# Altium integrated library Receiver.IntLib: 89 symbols (part 1 of 3)
Pins are listed as number, name and electrical type; pins without a type are passive.

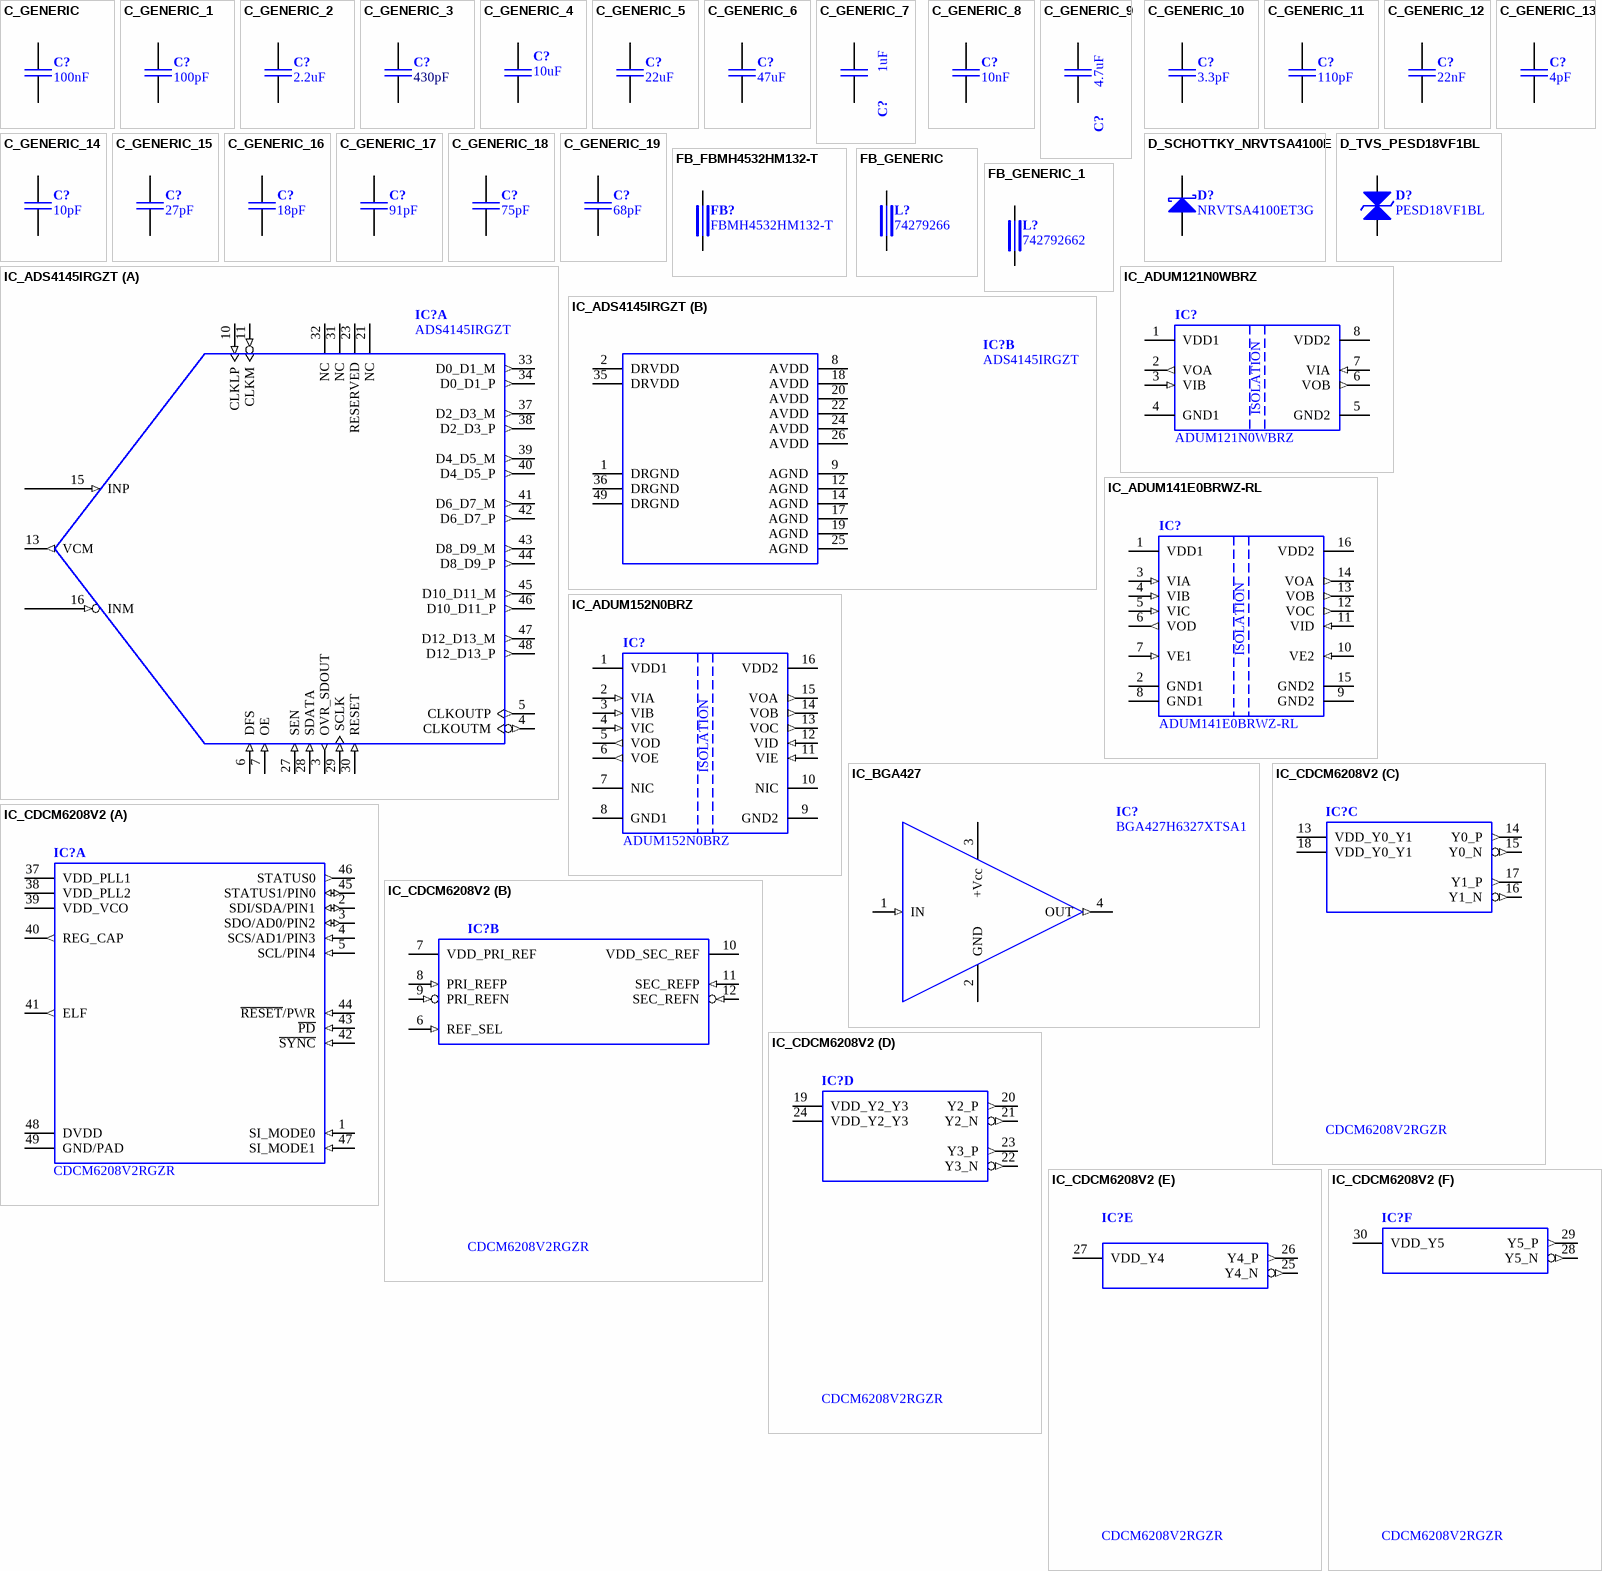
[diagram p0: symbols C_GENERIC to IC_CDCM6208V2]

## C_GENERIC
designator C?, comment 100nF
Prometheus_ID: *; Prometheus_ManPartNo: 100nF; Prometheus_Manufacturer: *; Prometheus_Comment: 100nF
footprint C_0201_L [CAPC0603L IPC] (0201 imperial (0603 metric) chip capacitor, least copper)
footprint C_0201_M [CAPC0603M IPC] (0201 imperial (0603 metric) chip capacitor, max copper)
footprint C_0201_N [CAPC0603N IPC] (0201 imperial (0603 metric) chip capacitor, nominal copper)
footprint C_0603_L [CAPC1608L IPC] (0603 imperial (1608 metric) chip capacitor, least copper)
footprint C_0603_M [CAPC1608M IPC] (0603 imperial (1608 metric) chip capacitor, max copper)
footprint C_0603_N [CAPC1608N IPC] (0603 imperial (1608 metric) chip capacitor, nominal copper)
footprint C_0805_L [CAPC2013L IPC] (0805 imperial (2013 metric) chip capacitor, least copper)
footprint C_0805_M [CAPC2013M IPC] (0805 imperial (2013 metric) chip capacitor, max copper)
footprint C_0805_N [CAPC2013N IPC] (0805 imperial (2013 metric) chip capacitor, nominal copper)
footprint C_1206_L [CAPC3216L IPC] (1206 imperial (3216 metric) chip capacitor, least copper)
footprint C_1206_M [CAPC3216M IPC] (1206 imperial (3216 metric) chip capacitor, max copper)
footprint C_1206_N [CAPC3216N IPC] (1206 imperial (3216 metric) chip capacitor, nominal copper)
footprint C_1210_L [CAPC3225L IPC] (1210 imperial (3225 metric) chip capacitor, least copper)
footprint C_1210_M [CAPC3225M IPC] (1210 imperial (3225 metric) chip capacitor, max copper)
footprint C_1210_N [CAPC3225N IPC] (1210 imperial (3225 metric) chip capacitor, nominal copper)
footprint C_0402_L [CAPC1005L IPC] (0402 imperial (1005 metric) chip capacitor, least copper)
footprint C_0402_M [CAPC1005M IPC] (0402 imperial (1005 metric) chip capacitor, max copper)
footprint C_0402_N [CAPC1005N IPC] (0402 imperial (1005 metric) chip capacitor, nominal copper)
footprint C_1808_N [CAPC4520M IPC] (1808 imperial (4520 metric) chip capacitor, max copper)
footprint C_RAD_P750_1050x500_H1100 - duplicate
footprint ECQU2A
pins: 1, 2

## C_GENERIC_1
designator C?, comment 100pF
Prometheus_ID: *; Prometheus_ManPartNo: 100pF; Prometheus_Manufacturer: *; Prometheus_Comment: 100pF
footprint C_0201_L [CAPC0603L IPC] (0201 imperial (0603 metric) chip capacitor, least copper)
footprint C_0201_M [CAPC0603M IPC] (0201 imperial (0603 metric) chip capacitor, max copper)
footprint C_0201_N [CAPC0603N IPC] (0201 imperial (0603 metric) chip capacitor, nominal copper)
footprint C_0603_L [CAPC1608L IPC] (0603 imperial (1608 metric) chip capacitor, least copper)
footprint C_0603_M [CAPC1608M IPC] (0603 imperial (1608 metric) chip capacitor, max copper)
footprint C_0603_N [CAPC1608N IPC] (0603 imperial (1608 metric) chip capacitor, nominal copper)
footprint C_0805_L [CAPC2013L IPC] (0805 imperial (2013 metric) chip capacitor, least copper)
footprint C_0805_M [CAPC2013M IPC] (0805 imperial (2013 metric) chip capacitor, max copper)
footprint C_0805_N [CAPC2013N IPC] (0805 imperial (2013 metric) chip capacitor, nominal copper)
footprint C_1206_L [CAPC3216L IPC] (1206 imperial (3216 metric) chip capacitor, least copper)
footprint C_1206_M [CAPC3216M IPC] (1206 imperial (3216 metric) chip capacitor, max copper)
footprint C_1206_N [CAPC3216N IPC] (1206 imperial (3216 metric) chip capacitor, nominal copper)
footprint C_1210_L [CAPC3225L IPC] (1210 imperial (3225 metric) chip capacitor, least copper)
footprint C_1210_M [CAPC3225M IPC] (1210 imperial (3225 metric) chip capacitor, max copper)
footprint C_1210_N [CAPC3225N IPC] (1210 imperial (3225 metric) chip capacitor, nominal copper)
footprint C_0402_L [CAPC1005L IPC] (0402 imperial (1005 metric) chip capacitor, least copper)
footprint C_0402_M [CAPC1005M IPC] (0402 imperial (1005 metric) chip capacitor, max copper)
footprint C_0402_N [CAPC1005N IPC] (0402 imperial (1005 metric) chip capacitor, nominal copper)
footprint C_1808_N [CAPC4520M IPC] (1808 imperial (4520 metric) chip capacitor, max copper)
footprint C_RAD_P750_1050x500_H1100 - duplicate
footprint ECQU2A
pins: 1, 2

## C_GENERIC_2
designator C?, comment 2.2uF
Prometheus_ID: *; Prometheus_ManPartNo: 2.2uF; Prometheus_Manufacturer: *; Prometheus_Comment: 2.2uF
footprint C_0201_L [CAPC0603L IPC] (0201 imperial (0603 metric) chip capacitor, least copper)
footprint C_0201_M [CAPC0603M IPC] (0201 imperial (0603 metric) chip capacitor, max copper)
footprint C_0201_N [CAPC0603N IPC] (0201 imperial (0603 metric) chip capacitor, nominal copper)
footprint C_0603_L [CAPC1608L IPC] (0603 imperial (1608 metric) chip capacitor, least copper)
footprint C_0603_M [CAPC1608M IPC] (0603 imperial (1608 metric) chip capacitor, max copper)
footprint C_0603_N [CAPC1608N IPC] (0603 imperial (1608 metric) chip capacitor, nominal copper)
footprint C_0805_L [CAPC2013L IPC] (0805 imperial (2013 metric) chip capacitor, least copper)
footprint C_0805_M [CAPC2013M IPC] (0805 imperial (2013 metric) chip capacitor, max copper)
footprint C_0805_N [CAPC2013N IPC] (0805 imperial (2013 metric) chip capacitor, nominal copper)
footprint C_1206_L [CAPC3216L IPC] (1206 imperial (3216 metric) chip capacitor, least copper)
footprint C_1206_M [CAPC3216M IPC] (1206 imperial (3216 metric) chip capacitor, max copper)
footprint C_1206_N [CAPC3216N IPC] (1206 imperial (3216 metric) chip capacitor, nominal copper)
footprint C_1210_L [CAPC3225L IPC] (1210 imperial (3225 metric) chip capacitor, least copper)
footprint C_1210_M [CAPC3225M IPC] (1210 imperial (3225 metric) chip capacitor, max copper)
footprint C_1210_N [CAPC3225N IPC] (1210 imperial (3225 metric) chip capacitor, nominal copper)
footprint C_0402_L [CAPC1005L IPC] (0402 imperial (1005 metric) chip capacitor, least copper)
footprint C_0402_M [CAPC1005M IPC] (0402 imperial (1005 metric) chip capacitor, max copper)
footprint C_0402_N [CAPC1005N IPC] (0402 imperial (1005 metric) chip capacitor, nominal copper)
footprint C_1808_N [CAPC4520M IPC] (1808 imperial (4520 metric) chip capacitor, max copper)
footprint C_RAD_P750_1050x500_H1100 - duplicate
footprint ECQU2A
pins: 1, 2

## C_GENERIC_3
designator C?, comment 430pF
Prometheus_ID: *; Prometheus_ManPartNo: 430pF; Prometheus_Manufacturer: *; Prometheus_Comment: 430pF
footprint C_0201_L [CAPC0603L IPC] (0201 imperial (0603 metric) chip capacitor, least copper)
footprint C_0201_M [CAPC0603M IPC] (0201 imperial (0603 metric) chip capacitor, max copper)
footprint C_0201_N [CAPC0603N IPC] (0201 imperial (0603 metric) chip capacitor, nominal copper)
footprint C_0603_L [CAPC1608L IPC] (0603 imperial (1608 metric) chip capacitor, least copper)
footprint C_0603_M [CAPC1608M IPC] (0603 imperial (1608 metric) chip capacitor, max copper)
footprint C_0603_N [CAPC1608N IPC] (0603 imperial (1608 metric) chip capacitor, nominal copper)
footprint C_0805_L [CAPC2013L IPC] (0805 imperial (2013 metric) chip capacitor, least copper)
footprint C_0805_M [CAPC2013M IPC] (0805 imperial (2013 metric) chip capacitor, max copper)
footprint C_0805_N [CAPC2013N IPC] (0805 imperial (2013 metric) chip capacitor, nominal copper)
footprint C_1206_L [CAPC3216L IPC] (1206 imperial (3216 metric) chip capacitor, least copper)
footprint C_1206_M [CAPC3216M IPC] (1206 imperial (3216 metric) chip capacitor, max copper)
footprint C_1206_N [CAPC3216N IPC] (1206 imperial (3216 metric) chip capacitor, nominal copper)
footprint C_1210_L [CAPC3225L IPC] (1210 imperial (3225 metric) chip capacitor, least copper)
footprint C_1210_M [CAPC3225M IPC] (1210 imperial (3225 metric) chip capacitor, max copper)
footprint C_1210_N [CAPC3225N IPC] (1210 imperial (3225 metric) chip capacitor, nominal copper)
footprint C_0402_L [CAPC1005L IPC] (0402 imperial (1005 metric) chip capacitor, least copper)
footprint C_0402_M [CAPC1005M IPC] (0402 imperial (1005 metric) chip capacitor, max copper)
footprint C_0402_N [CAPC1005N IPC] (0402 imperial (1005 metric) chip capacitor, nominal copper)
footprint C_1808_N [CAPC4520M IPC] (1808 imperial (4520 metric) chip capacitor, max copper)
footprint C_RAD_P750_1050x500_H1100 - duplicate
footprint ECQU2A
pins: 1, 2

## C_GENERIC_4
designator C?, comment 10uF
Prometheus_ID: *; Prometheus_ManPartNo: 10uF; Prometheus_Manufacturer: *; Prometheus_Comment: 10uF
footprint C_0201_L [CAPC0603L IPC] (0201 imperial (0603 metric) chip capacitor, least copper)
footprint C_0201_M [CAPC0603M IPC] (0201 imperial (0603 metric) chip capacitor, max copper)
footprint C_0201_N [CAPC0603N IPC] (0201 imperial (0603 metric) chip capacitor, nominal copper)
footprint C_0603_L [CAPC1608L IPC] (0603 imperial (1608 metric) chip capacitor, least copper)
footprint C_0603_M [CAPC1608M IPC] (0603 imperial (1608 metric) chip capacitor, max copper)
footprint C_0603_N [CAPC1608N IPC] (0603 imperial (1608 metric) chip capacitor, nominal copper)
footprint C_0805_L [CAPC2013L IPC] (0805 imperial (2013 metric) chip capacitor, least copper)
footprint C_0805_M [CAPC2013M IPC] (0805 imperial (2013 metric) chip capacitor, max copper)
footprint C_0805_N [CAPC2013N IPC] (0805 imperial (2013 metric) chip capacitor, nominal copper)
footprint C_1206_L [CAPC3216L IPC] (1206 imperial (3216 metric) chip capacitor, least copper)
footprint C_1206_M [CAPC3216M IPC] (1206 imperial (3216 metric) chip capacitor, max copper)
footprint C_1206_N [CAPC3216N IPC] (1206 imperial (3216 metric) chip capacitor, nominal copper)
footprint C_1210_L [CAPC3225L IPC] (1210 imperial (3225 metric) chip capacitor, least copper)
footprint C_1210_M [CAPC3225M IPC] (1210 imperial (3225 metric) chip capacitor, max copper)
footprint C_1210_N [CAPC3225N IPC] (1210 imperial (3225 metric) chip capacitor, nominal copper)
footprint C_0402_L [CAPC1005L IPC] (0402 imperial (1005 metric) chip capacitor, least copper)
footprint C_0402_M [CAPC1005M IPC] (0402 imperial (1005 metric) chip capacitor, max copper)
footprint C_0402_N [CAPC1005N IPC] (0402 imperial (1005 metric) chip capacitor, nominal copper)
footprint C_1808_N [CAPC4520M IPC] (1808 imperial (4520 metric) chip capacitor, max copper)
footprint C_RAD_P750_1050x500_H1100 - duplicate
footprint ECQU2A
pins: 1, 2

## C_GENERIC_5
designator C?, comment 22uF
Prometheus_ID: *; Prometheus_ManPartNo: 22uF; Prometheus_Manufacturer: *; Prometheus_Comment: 22uF
footprint C_0201_L [CAPC0603L IPC] (0201 imperial (0603 metric) chip capacitor, least copper)
footprint C_0201_M [CAPC0603M IPC] (0201 imperial (0603 metric) chip capacitor, max copper)
footprint C_0201_N [CAPC0603N IPC] (0201 imperial (0603 metric) chip capacitor, nominal copper)
footprint C_0603_L [CAPC1608L IPC] (0603 imperial (1608 metric) chip capacitor, least copper)
footprint C_0603_M [CAPC1608M IPC] (0603 imperial (1608 metric) chip capacitor, max copper)
footprint C_0603_N [CAPC1608N IPC] (0603 imperial (1608 metric) chip capacitor, nominal copper)
footprint C_0805_L [CAPC2013L IPC] (0805 imperial (2013 metric) chip capacitor, least copper)
footprint C_0805_M [CAPC2013M IPC] (0805 imperial (2013 metric) chip capacitor, max copper)
footprint C_0805_N [CAPC2013N IPC] (0805 imperial (2013 metric) chip capacitor, nominal copper)
footprint C_1206_L [CAPC3216L IPC] (1206 imperial (3216 metric) chip capacitor, least copper)
footprint C_1206_M [CAPC3216M IPC] (1206 imperial (3216 metric) chip capacitor, max copper)
footprint C_1206_N [CAPC3216N IPC] (1206 imperial (3216 metric) chip capacitor, nominal copper)
footprint C_1210_L [CAPC3225L IPC] (1210 imperial (3225 metric) chip capacitor, least copper)
footprint C_1210_M [CAPC3225M IPC] (1210 imperial (3225 metric) chip capacitor, max copper)
footprint C_1210_N [CAPC3225N IPC] (1210 imperial (3225 metric) chip capacitor, nominal copper)
footprint C_0402_L [CAPC1005L IPC] (0402 imperial (1005 metric) chip capacitor, least copper)
footprint C_0402_M [CAPC1005M IPC] (0402 imperial (1005 metric) chip capacitor, max copper)
footprint C_0402_N [CAPC1005N IPC] (0402 imperial (1005 metric) chip capacitor, nominal copper)
footprint C_1808_N [CAPC4520M IPC] (1808 imperial (4520 metric) chip capacitor, max copper)
footprint C_RAD_P750_1050x500_H1100 - duplicate
footprint ECQU2A
pins: 1, 2

## C_GENERIC_6
designator C?, comment 47uF
Prometheus_ID: *; Prometheus_ManPartNo: 47uF; Prometheus_Manufacturer: *; Prometheus_Comment: 47uF
footprint C_0201_L [CAPC0603L IPC] (0201 imperial (0603 metric) chip capacitor, least copper)
footprint C_0201_M [CAPC0603M IPC] (0201 imperial (0603 metric) chip capacitor, max copper)
footprint C_0201_N [CAPC0603N IPC] (0201 imperial (0603 metric) chip capacitor, nominal copper)
footprint C_0603_L [CAPC1608L IPC] (0603 imperial (1608 metric) chip capacitor, least copper)
footprint C_0603_M [CAPC1608M IPC] (0603 imperial (1608 metric) chip capacitor, max copper)
footprint C_0603_N [CAPC1608N IPC] (0603 imperial (1608 metric) chip capacitor, nominal copper)
footprint C_0805_L [CAPC2013L IPC] (0805 imperial (2013 metric) chip capacitor, least copper)
footprint C_0805_M [CAPC2013M IPC] (0805 imperial (2013 metric) chip capacitor, max copper)
footprint C_0805_N [CAPC2013N IPC] (0805 imperial (2013 metric) chip capacitor, nominal copper)
footprint C_1206_L [CAPC3216L IPC] (1206 imperial (3216 metric) chip capacitor, least copper)
footprint C_1206_M [CAPC3216M IPC] (1206 imperial (3216 metric) chip capacitor, max copper)
footprint C_1206_N [CAPC3216N IPC] (1206 imperial (3216 metric) chip capacitor, nominal copper)
footprint C_1210_L [CAPC3225L IPC] (1210 imperial (3225 metric) chip capacitor, least copper)
footprint C_1210_M [CAPC3225M IPC] (1210 imperial (3225 metric) chip capacitor, max copper)
footprint C_1210_N [CAPC3225N IPC] (1210 imperial (3225 metric) chip capacitor, nominal copper)
footprint C_0402_L [CAPC1005L IPC] (0402 imperial (1005 metric) chip capacitor, least copper)
footprint C_0402_M [CAPC1005M IPC] (0402 imperial (1005 metric) chip capacitor, max copper)
footprint C_0402_N [CAPC1005N IPC] (0402 imperial (1005 metric) chip capacitor, nominal copper)
footprint C_1808_N [CAPC4520M IPC] (1808 imperial (4520 metric) chip capacitor, max copper)
footprint C_RAD_P750_1050x500_H1100 - duplicate
footprint ECQU2A
pins: 1, 2

## C_GENERIC_7
designator C?, comment 1uF
Prometheus_ID: *; Prometheus_ManPartNo: 1uF; Prometheus_Manufacturer: *; Prometheus_Comment: 1uF
footprint C_0201_L [CAPC0603L IPC] (0201 imperial (0603 metric) chip capacitor, least copper)
footprint C_0201_M [CAPC0603M IPC] (0201 imperial (0603 metric) chip capacitor, max copper)
footprint C_0201_N [CAPC0603N IPC] (0201 imperial (0603 metric) chip capacitor, nominal copper)
footprint C_0603_L [CAPC1608L IPC] (0603 imperial (1608 metric) chip capacitor, least copper)
footprint C_0603_M [CAPC1608M IPC] (0603 imperial (1608 metric) chip capacitor, max copper)
footprint C_0603_N [CAPC1608N IPC] (0603 imperial (1608 metric) chip capacitor, nominal copper)
footprint C_0805_L [CAPC2013L IPC] (0805 imperial (2013 metric) chip capacitor, least copper)
footprint C_0805_M [CAPC2013M IPC] (0805 imperial (2013 metric) chip capacitor, max copper)
footprint C_0805_N [CAPC2013N IPC] (0805 imperial (2013 metric) chip capacitor, nominal copper)
footprint C_1206_L [CAPC3216L IPC] (1206 imperial (3216 metric) chip capacitor, least copper)
footprint C_1206_M [CAPC3216M IPC] (1206 imperial (3216 metric) chip capacitor, max copper)
footprint C_1206_N [CAPC3216N IPC] (1206 imperial (3216 metric) chip capacitor, nominal copper)
footprint C_1210_L [CAPC3225L IPC] (1210 imperial (3225 metric) chip capacitor, least copper)
footprint C_1210_M [CAPC3225M IPC] (1210 imperial (3225 metric) chip capacitor, max copper)
footprint C_1210_N [CAPC3225N IPC] (1210 imperial (3225 metric) chip capacitor, nominal copper)
footprint C_0402_L [CAPC1005L IPC] (0402 imperial (1005 metric) chip capacitor, least copper)
footprint C_0402_M [CAPC1005M IPC] (0402 imperial (1005 metric) chip capacitor, max copper)
footprint C_0402_N [CAPC1005N IPC] (0402 imperial (1005 metric) chip capacitor, nominal copper)
footprint C_1808_N [CAPC4520M IPC] (1808 imperial (4520 metric) chip capacitor, max copper)
footprint C_RAD_P750_1050x500_H1100 - duplicate
footprint ECQU2A
pins: 1, 2

## C_GENERIC_8
designator C?, comment 10nF
Prometheus_ID: *; Prometheus_ManPartNo: 10nF; Prometheus_Manufacturer: *; Prometheus_Comment: 10nF
footprint C_0201_L [CAPC0603L IPC] (0201 imperial (0603 metric) chip capacitor, least copper)
footprint C_0201_M [CAPC0603M IPC] (0201 imperial (0603 metric) chip capacitor, max copper)
footprint C_0201_N [CAPC0603N IPC] (0201 imperial (0603 metric) chip capacitor, nominal copper)
footprint C_0603_L [CAPC1608L IPC] (0603 imperial (1608 metric) chip capacitor, least copper)
footprint C_0603_M [CAPC1608M IPC] (0603 imperial (1608 metric) chip capacitor, max copper)
footprint C_0603_N [CAPC1608N IPC] (0603 imperial (1608 metric) chip capacitor, nominal copper)
footprint C_0805_L [CAPC2013L IPC] (0805 imperial (2013 metric) chip capacitor, least copper)
footprint C_0805_M [CAPC2013M IPC] (0805 imperial (2013 metric) chip capacitor, max copper)
footprint C_0805_N [CAPC2013N IPC] (0805 imperial (2013 metric) chip capacitor, nominal copper)
footprint C_1206_L [CAPC3216L IPC] (1206 imperial (3216 metric) chip capacitor, least copper)
footprint C_1206_M [CAPC3216M IPC] (1206 imperial (3216 metric) chip capacitor, max copper)
footprint C_1206_N [CAPC3216N IPC] (1206 imperial (3216 metric) chip capacitor, nominal copper)
footprint C_1210_L [CAPC3225L IPC] (1210 imperial (3225 metric) chip capacitor, least copper)
footprint C_1210_M [CAPC3225M IPC] (1210 imperial (3225 metric) chip capacitor, max copper)
footprint C_1210_N [CAPC3225N IPC] (1210 imperial (3225 metric) chip capacitor, nominal copper)
footprint C_0402_L [CAPC1005L IPC] (0402 imperial (1005 metric) chip capacitor, least copper)
footprint C_0402_M [CAPC1005M IPC] (0402 imperial (1005 metric) chip capacitor, max copper)
footprint C_0402_N [CAPC1005N IPC] (0402 imperial (1005 metric) chip capacitor, nominal copper)
footprint C_1808_N [CAPC4520M IPC] (1808 imperial (4520 metric) chip capacitor, max copper)
footprint C_RAD_P750_1050x500_H1100 - duplicate
footprint ECQU2A
pins: 1, 2

## C_GENERIC_9
designator C?, comment 4.7uF
Prometheus_ID: *; Prometheus_ManPartNo: 4.7uF; Prometheus_Manufacturer: *; Prometheus_Comment: 4.7uF
footprint C_0201_L [CAPC0603L IPC] (0201 imperial (0603 metric) chip capacitor, least copper)
footprint C_0201_M [CAPC0603M IPC] (0201 imperial (0603 metric) chip capacitor, max copper)
footprint C_0201_N [CAPC0603N IPC] (0201 imperial (0603 metric) chip capacitor, nominal copper)
footprint C_0603_L [CAPC1608L IPC] (0603 imperial (1608 metric) chip capacitor, least copper)
footprint C_0603_M [CAPC1608M IPC] (0603 imperial (1608 metric) chip capacitor, max copper)
footprint C_0603_N [CAPC1608N IPC] (0603 imperial (1608 metric) chip capacitor, nominal copper)
footprint C_0805_L [CAPC2013L IPC] (0805 imperial (2013 metric) chip capacitor, least copper)
footprint C_0805_M [CAPC2013M IPC] (0805 imperial (2013 metric) chip capacitor, max copper)
footprint C_0805_N [CAPC2013N IPC] (0805 imperial (2013 metric) chip capacitor, nominal copper)
footprint C_1206_L [CAPC3216L IPC] (1206 imperial (3216 metric) chip capacitor, least copper)
footprint C_1206_M [CAPC3216M IPC] (1206 imperial (3216 metric) chip capacitor, max copper)
footprint C_1206_N [CAPC3216N IPC] (1206 imperial (3216 metric) chip capacitor, nominal copper)
footprint C_1210_L [CAPC3225L IPC] (1210 imperial (3225 metric) chip capacitor, least copper)
footprint C_1210_M [CAPC3225M IPC] (1210 imperial (3225 metric) chip capacitor, max copper)
footprint C_1210_N [CAPC3225N IPC] (1210 imperial (3225 metric) chip capacitor, nominal copper)
footprint C_0402_L [CAPC1005L IPC] (0402 imperial (1005 metric) chip capacitor, least copper)
footprint C_0402_M [CAPC1005M IPC] (0402 imperial (1005 metric) chip capacitor, max copper)
footprint C_0402_N [CAPC1005N IPC] (0402 imperial (1005 metric) chip capacitor, nominal copper)
footprint C_1808_N [CAPC4520M IPC] (1808 imperial (4520 metric) chip capacitor, max copper)
footprint C_RAD_P750_1050x500_H1100 - duplicate
footprint ECQU2A
pins: 1, 2

## C_GENERIC_10
designator C?, comment 3.3pF
Prometheus_ID: *; Prometheus_ManPartNo: 3.3pF; Prometheus_Manufacturer: *; Prometheus_Comment: 3.3pF
footprint C_0201_L [CAPC0603L IPC] (0201 imperial (0603 metric) chip capacitor, least copper)
footprint C_0201_M [CAPC0603M IPC] (0201 imperial (0603 metric) chip capacitor, max copper)
footprint C_0201_N [CAPC0603N IPC] (0201 imperial (0603 metric) chip capacitor, nominal copper)
footprint C_0603_L [CAPC1608L IPC] (0603 imperial (1608 metric) chip capacitor, least copper)
footprint C_0603_M [CAPC1608M IPC] (0603 imperial (1608 metric) chip capacitor, max copper)
footprint C_0603_N [CAPC1608N IPC] (0603 imperial (1608 metric) chip capacitor, nominal copper)
footprint C_0805_L [CAPC2013L IPC] (0805 imperial (2013 metric) chip capacitor, least copper)
footprint C_0805_M [CAPC2013M IPC] (0805 imperial (2013 metric) chip capacitor, max copper)
footprint C_0805_N [CAPC2013N IPC] (0805 imperial (2013 metric) chip capacitor, nominal copper)
footprint C_1206_L [CAPC3216L IPC] (1206 imperial (3216 metric) chip capacitor, least copper)
footprint C_1206_M [CAPC3216M IPC] (1206 imperial (3216 metric) chip capacitor, max copper)
footprint C_1206_N [CAPC3216N IPC] (1206 imperial (3216 metric) chip capacitor, nominal copper)
footprint C_1210_L [CAPC3225L IPC] (1210 imperial (3225 metric) chip capacitor, least copper)
footprint C_1210_M [CAPC3225M IPC] (1210 imperial (3225 metric) chip capacitor, max copper)
footprint C_1210_N [CAPC3225N IPC] (1210 imperial (3225 metric) chip capacitor, nominal copper)
footprint C_0402_L [CAPC1005L IPC] (0402 imperial (1005 metric) chip capacitor, least copper)
footprint C_0402_M [CAPC1005M IPC] (0402 imperial (1005 metric) chip capacitor, max copper)
footprint C_0402_N [CAPC1005N IPC] (0402 imperial (1005 metric) chip capacitor, nominal copper)
footprint C_1808_N [CAPC4520M IPC] (1808 imperial (4520 metric) chip capacitor, max copper)
footprint C_RAD_P750_1050x500_H1100 - duplicate
footprint ECQU2A
pins: 1, 2

## C_GENERIC_11
designator C?, comment 110pF
Prometheus_Manufacturer: Yageo; Prometheus_ID: CC0603JRNPO9BN111; Prometheus_ManPartNo: 110pF; Prometheus_Comment: 110pF
footprint C_0201_L [CAPC0603L IPC] (0201 imperial (0603 metric) chip capacitor, least copper)
footprint C_0201_M [CAPC0603M IPC] (0201 imperial (0603 metric) chip capacitor, max copper)
footprint C_0201_N [CAPC0603N IPC] (0201 imperial (0603 metric) chip capacitor, nominal copper)
footprint C_0603_L [CAPC1608L IPC] (0603 imperial (1608 metric) chip capacitor, least copper)
footprint C_0603_M [CAPC1608M IPC] (0603 imperial (1608 metric) chip capacitor, max copper)
footprint C_0603_N [CAPC1608N IPC] (0603 imperial (1608 metric) chip capacitor, nominal copper)
footprint C_0805_L [CAPC2013L IPC] (0805 imperial (2013 metric) chip capacitor, least copper)
footprint C_0805_M [CAPC2013M IPC] (0805 imperial (2013 metric) chip capacitor, max copper)
footprint C_0805_N [CAPC2013N IPC] (0805 imperial (2013 metric) chip capacitor, nominal copper)
footprint C_1206_L [CAPC3216L IPC] (1206 imperial (3216 metric) chip capacitor, least copper)
footprint C_1206_M [CAPC3216M IPC] (1206 imperial (3216 metric) chip capacitor, max copper)
footprint C_1206_N [CAPC3216N IPC] (1206 imperial (3216 metric) chip capacitor, nominal copper)
footprint C_1210_L [CAPC3225L IPC] (1210 imperial (3225 metric) chip capacitor, least copper)
footprint C_1210_M [CAPC3225M IPC] (1210 imperial (3225 metric) chip capacitor, max copper)
footprint C_1210_N [CAPC3225N IPC] (1210 imperial (3225 metric) chip capacitor, nominal copper)
footprint C_0402_L [CAPC1005L IPC] (0402 imperial (1005 metric) chip capacitor, least copper)
footprint C_0402_M [CAPC1005M IPC] (0402 imperial (1005 metric) chip capacitor, max copper)
footprint C_0402_N [CAPC1005N IPC] (0402 imperial (1005 metric) chip capacitor, nominal copper)
footprint C_1808_N [CAPC4520M IPC] (1808 imperial (4520 metric) chip capacitor, max copper)
footprint C_RAD_P750_1050x500_H1100 - duplicate
footprint ECQU2A
pins: 1, 2

## C_GENERIC_12
designator C?, comment 22nF
Prometheus_Manufacturer: Yageo; Prometheus_ID: CC0603KRX7R9BB223; Prometheus_ManPartNo: 22nF; Prometheus_Comment: 22nF
footprint C_0201_L [CAPC0603L IPC] (0201 imperial (0603 metric) chip capacitor, least copper)
footprint C_0201_M [CAPC0603M IPC] (0201 imperial (0603 metric) chip capacitor, max copper)
footprint C_0201_N [CAPC0603N IPC] (0201 imperial (0603 metric) chip capacitor, nominal copper)
footprint C_0603_L [CAPC1608L IPC] (0603 imperial (1608 metric) chip capacitor, least copper)
footprint C_0603_M [CAPC1608M IPC] (0603 imperial (1608 metric) chip capacitor, max copper)
footprint C_0603_N [CAPC1608N IPC] (0603 imperial (1608 metric) chip capacitor, nominal copper)
footprint C_0805_L [CAPC2013L IPC] (0805 imperial (2013 metric) chip capacitor, least copper)
footprint C_0805_M [CAPC2013M IPC] (0805 imperial (2013 metric) chip capacitor, max copper)
footprint C_0805_N [CAPC2013N IPC] (0805 imperial (2013 metric) chip capacitor, nominal copper)
footprint C_1206_L [CAPC3216L IPC] (1206 imperial (3216 metric) chip capacitor, least copper)
footprint C_1206_M [CAPC3216M IPC] (1206 imperial (3216 metric) chip capacitor, max copper)
footprint C_1206_N [CAPC3216N IPC] (1206 imperial (3216 metric) chip capacitor, nominal copper)
footprint C_1210_L [CAPC3225L IPC] (1210 imperial (3225 metric) chip capacitor, least copper)
footprint C_1210_M [CAPC3225M IPC] (1210 imperial (3225 metric) chip capacitor, max copper)
footprint C_1210_N [CAPC3225N IPC] (1210 imperial (3225 metric) chip capacitor, nominal copper)
footprint C_0402_L [CAPC1005L IPC] (0402 imperial (1005 metric) chip capacitor, least copper)
footprint C_0402_M [CAPC1005M IPC] (0402 imperial (1005 metric) chip capacitor, max copper)
footprint C_0402_N [CAPC1005N IPC] (0402 imperial (1005 metric) chip capacitor, nominal copper)
footprint C_1808_N [CAPC4520M IPC] (1808 imperial (4520 metric) chip capacitor, max copper)
footprint C_RAD_P750_1050x500_H1100 - duplicate
footprint ECQU2A
pins: 1, 2

## C_GENERIC_13
designator C?, comment 4pF
+- 0.05 pF; Prometheus_ManPartNo: CBR06C409A1GAC; Prometheus_Manufacturer: KEMET; Prometheus_ID: *; Prometheus_Comment: 4pF
footprint C_0201_L [CAPC0603L IPC] (0201 imperial (0603 metric) chip capacitor, least copper)
footprint C_0201_M [CAPC0603M IPC] (0201 imperial (0603 metric) chip capacitor, max copper)
footprint C_0201_N [CAPC0603N IPC] (0201 imperial (0603 metric) chip capacitor, nominal copper)
footprint C_0603_L [CAPC1608L IPC] (0603 imperial (1608 metric) chip capacitor, least copper)
footprint C_0603_M [CAPC1608M IPC] (0603 imperial (1608 metric) chip capacitor, max copper)
footprint C_0603_N [CAPC1608N IPC] (0603 imperial (1608 metric) chip capacitor, nominal copper)
footprint C_0805_L [CAPC2013L IPC] (0805 imperial (2013 metric) chip capacitor, least copper)
footprint C_0805_M [CAPC2013M IPC] (0805 imperial (2013 metric) chip capacitor, max copper)
footprint C_0805_N [CAPC2013N IPC] (0805 imperial (2013 metric) chip capacitor, nominal copper)
footprint C_1206_L [CAPC3216L IPC] (1206 imperial (3216 metric) chip capacitor, least copper)
footprint C_1206_M [CAPC3216M IPC] (1206 imperial (3216 metric) chip capacitor, max copper)
footprint C_1206_N [CAPC3216N IPC] (1206 imperial (3216 metric) chip capacitor, nominal copper)
footprint C_1210_L [CAPC3225L IPC] (1210 imperial (3225 metric) chip capacitor, least copper)
footprint C_1210_M [CAPC3225M IPC] (1210 imperial (3225 metric) chip capacitor, max copper)
footprint C_1210_N [CAPC3225N IPC] (1210 imperial (3225 metric) chip capacitor, nominal copper)
footprint C_0402_L [CAPC1005L IPC] (0402 imperial (1005 metric) chip capacitor, least copper)
footprint C_0402_M [CAPC1005M IPC] (0402 imperial (1005 metric) chip capacitor, max copper)
footprint C_0402_N [CAPC1005N IPC] (0402 imperial (1005 metric) chip capacitor, nominal copper)
footprint C_1808_N [CAPC4520M IPC] (1808 imperial (4520 metric) chip capacitor, max copper)
footprint C_RAD_P750_1050x500_H1100 - duplicate
footprint ECQU2A
pins: 1, 2

## C_GENERIC_14
designator C?, comment 10pF
Prometheus_Manufacturer: AVX Corporation; Prometheus_ID: 06031U100FAT2A; Prometheus_ManPartNo: 10pF; Prometheus_Comment: 10pF
footprint C_0201_L [CAPC0603L IPC] (0201 imperial (0603 metric) chip capacitor, least copper)
footprint C_0201_M [CAPC0603M IPC] (0201 imperial (0603 metric) chip capacitor, max copper)
footprint C_0201_N [CAPC0603N IPC] (0201 imperial (0603 metric) chip capacitor, nominal copper)
footprint C_0603_L [CAPC1608L IPC] (0603 imperial (1608 metric) chip capacitor, least copper)
footprint C_0603_M [CAPC1608M IPC] (0603 imperial (1608 metric) chip capacitor, max copper)
footprint C_0603_N [CAPC1608N IPC] (0603 imperial (1608 metric) chip capacitor, nominal copper)
footprint C_0805_L [CAPC2013L IPC] (0805 imperial (2013 metric) chip capacitor, least copper)
footprint C_0805_M [CAPC2013M IPC] (0805 imperial (2013 metric) chip capacitor, max copper)
footprint C_0805_N [CAPC2013N IPC] (0805 imperial (2013 metric) chip capacitor, nominal copper)
footprint C_1206_L [CAPC3216L IPC] (1206 imperial (3216 metric) chip capacitor, least copper)
footprint C_1206_M [CAPC3216M IPC] (1206 imperial (3216 metric) chip capacitor, max copper)
footprint C_1206_N [CAPC3216N IPC] (1206 imperial (3216 metric) chip capacitor, nominal copper)
footprint C_1210_L [CAPC3225L IPC] (1210 imperial (3225 metric) chip capacitor, least copper)
footprint C_1210_M [CAPC3225M IPC] (1210 imperial (3225 metric) chip capacitor, max copper)
footprint C_1210_N [CAPC3225N IPC] (1210 imperial (3225 metric) chip capacitor, nominal copper)
footprint C_0402_L [CAPC1005L IPC] (0402 imperial (1005 metric) chip capacitor, least copper)
footprint C_0402_M [CAPC1005M IPC] (0402 imperial (1005 metric) chip capacitor, max copper)
footprint C_0402_N [CAPC1005N IPC] (0402 imperial (1005 metric) chip capacitor, nominal copper)
footprint C_1808_N [CAPC4520M IPC] (1808 imperial (4520 metric) chip capacitor, max copper)
footprint C_RAD_P750_1050x500_H1100 - duplicate
footprint ECQU2A
pins: 1, 2

## C_GENERIC_15
designator C?, comment 27pF
Prometheus_Manufacturer: AVX Corporation; Prometheus_ID: 06031U270FAT2A; Prometheus_ManPartNo: 27pF; Prometheus_Comment: 27pF
footprint C_0201_L [CAPC0603L IPC] (0201 imperial (0603 metric) chip capacitor, least copper)
footprint C_0201_M [CAPC0603M IPC] (0201 imperial (0603 metric) chip capacitor, max copper)
footprint C_0201_N [CAPC0603N IPC] (0201 imperial (0603 metric) chip capacitor, nominal copper)
footprint C_0603_L [CAPC1608L IPC] (0603 imperial (1608 metric) chip capacitor, least copper)
footprint C_0603_M [CAPC1608M IPC] (0603 imperial (1608 metric) chip capacitor, max copper)
footprint C_0603_N [CAPC1608N IPC] (0603 imperial (1608 metric) chip capacitor, nominal copper)
footprint C_0805_L [CAPC2013L IPC] (0805 imperial (2013 metric) chip capacitor, least copper)
footprint C_0805_M [CAPC2013M IPC] (0805 imperial (2013 metric) chip capacitor, max copper)
footprint C_0805_N [CAPC2013N IPC] (0805 imperial (2013 metric) chip capacitor, nominal copper)
footprint C_1206_L [CAPC3216L IPC] (1206 imperial (3216 metric) chip capacitor, least copper)
footprint C_1206_M [CAPC3216M IPC] (1206 imperial (3216 metric) chip capacitor, max copper)
footprint C_1206_N [CAPC3216N IPC] (1206 imperial (3216 metric) chip capacitor, nominal copper)
footprint C_1210_L [CAPC3225L IPC] (1210 imperial (3225 metric) chip capacitor, least copper)
footprint C_1210_M [CAPC3225M IPC] (1210 imperial (3225 metric) chip capacitor, max copper)
footprint C_1210_N [CAPC3225N IPC] (1210 imperial (3225 metric) chip capacitor, nominal copper)
footprint C_0402_L [CAPC1005L IPC] (0402 imperial (1005 metric) chip capacitor, least copper)
footprint C_0402_M [CAPC1005M IPC] (0402 imperial (1005 metric) chip capacitor, max copper)
footprint C_0402_N [CAPC1005N IPC] (0402 imperial (1005 metric) chip capacitor, nominal copper)
footprint C_1808_N [CAPC4520M IPC] (1808 imperial (4520 metric) chip capacitor, max copper)
footprint C_RAD_P750_1050x500_H1100 - duplicate
footprint ECQU2A
pins: 1, 2

## C_GENERIC_16
designator C?, comment 18pF
Prometheus_Manufacturer: AVX Corporation; Prometheus_ID: 06031U180FAT2A; Prometheus_ManPartNo: 18pF; Prometheus_Comment: 18pF
footprint C_0201_L [CAPC0603L IPC] (0201 imperial (0603 metric) chip capacitor, least copper)
footprint C_0201_M [CAPC0603M IPC] (0201 imperial (0603 metric) chip capacitor, max copper)
footprint C_0201_N [CAPC0603N IPC] (0201 imperial (0603 metric) chip capacitor, nominal copper)
footprint C_0603_L [CAPC1608L IPC] (0603 imperial (1608 metric) chip capacitor, least copper)
footprint C_0603_M [CAPC1608M IPC] (0603 imperial (1608 metric) chip capacitor, max copper)
footprint C_0603_N [CAPC1608N IPC] (0603 imperial (1608 metric) chip capacitor, nominal copper)
footprint C_0805_L [CAPC2013L IPC] (0805 imperial (2013 metric) chip capacitor, least copper)
footprint C_0805_M [CAPC2013M IPC] (0805 imperial (2013 metric) chip capacitor, max copper)
footprint C_0805_N [CAPC2013N IPC] (0805 imperial (2013 metric) chip capacitor, nominal copper)
footprint C_1206_L [CAPC3216L IPC] (1206 imperial (3216 metric) chip capacitor, least copper)
footprint C_1206_M [CAPC3216M IPC] (1206 imperial (3216 metric) chip capacitor, max copper)
footprint C_1206_N [CAPC3216N IPC] (1206 imperial (3216 metric) chip capacitor, nominal copper)
footprint C_1210_L [CAPC3225L IPC] (1210 imperial (3225 metric) chip capacitor, least copper)
footprint C_1210_M [CAPC3225M IPC] (1210 imperial (3225 metric) chip capacitor, max copper)
footprint C_1210_N [CAPC3225N IPC] (1210 imperial (3225 metric) chip capacitor, nominal copper)
footprint C_0402_L [CAPC1005L IPC] (0402 imperial (1005 metric) chip capacitor, least copper)
footprint C_0402_M [CAPC1005M IPC] (0402 imperial (1005 metric) chip capacitor, max copper)
footprint C_0402_N [CAPC1005N IPC] (0402 imperial (1005 metric) chip capacitor, nominal copper)
footprint C_1808_N [CAPC4520M IPC] (1808 imperial (4520 metric) chip capacitor, max copper)
footprint C_RAD_P750_1050x500_H1100 - duplicate
footprint ECQU2A
pins: 1, 2

## C_GENERIC_17
designator C?, comment 91pF
Prometheus_Manufacturer: AVX Corporation; Prometheus_ID: 06031U910FAT2A; Prometheus_ManPartNo: 91pF; Prometheus_Comment: 91pF
footprint C_0201_L [CAPC0603L IPC] (0201 imperial (0603 metric) chip capacitor, least copper)
footprint C_0201_M [CAPC0603M IPC] (0201 imperial (0603 metric) chip capacitor, max copper)
footprint C_0201_N [CAPC0603N IPC] (0201 imperial (0603 metric) chip capacitor, nominal copper)
footprint C_0603_L [CAPC1608L IPC] (0603 imperial (1608 metric) chip capacitor, least copper)
footprint C_0603_M [CAPC1608M IPC] (0603 imperial (1608 metric) chip capacitor, max copper)
footprint C_0603_N [CAPC1608N IPC] (0603 imperial (1608 metric) chip capacitor, nominal copper)
footprint C_0805_L [CAPC2013L IPC] (0805 imperial (2013 metric) chip capacitor, least copper)
footprint C_0805_M [CAPC2013M IPC] (0805 imperial (2013 metric) chip capacitor, max copper)
footprint C_0805_N [CAPC2013N IPC] (0805 imperial (2013 metric) chip capacitor, nominal copper)
footprint C_1206_L [CAPC3216L IPC] (1206 imperial (3216 metric) chip capacitor, least copper)
footprint C_1206_M [CAPC3216M IPC] (1206 imperial (3216 metric) chip capacitor, max copper)
footprint C_1206_N [CAPC3216N IPC] (1206 imperial (3216 metric) chip capacitor, nominal copper)
footprint C_1210_L [CAPC3225L IPC] (1210 imperial (3225 metric) chip capacitor, least copper)
footprint C_1210_M [CAPC3225M IPC] (1210 imperial (3225 metric) chip capacitor, max copper)
footprint C_1210_N [CAPC3225N IPC] (1210 imperial (3225 metric) chip capacitor, nominal copper)
footprint C_0402_L [CAPC1005L IPC] (0402 imperial (1005 metric) chip capacitor, least copper)
footprint C_0402_M [CAPC1005M IPC] (0402 imperial (1005 metric) chip capacitor, max copper)
footprint C_0402_N [CAPC1005N IPC] (0402 imperial (1005 metric) chip capacitor, nominal copper)
footprint C_1808_N [CAPC4520M IPC] (1808 imperial (4520 metric) chip capacitor, max copper)
footprint C_RAD_P750_1050x500_H1100 - duplicate
footprint ECQU2A
pins: 1, 2

## C_GENERIC_18
designator C?, comment 75pF
Prometheus_Manufacturer: AVX Corporation; Prometheus_ID: 06031U750FAT2A; Prometheus_ManPartNo: 75pF; Prometheus_Comment: 75pF
footprint C_0201_L [CAPC0603L IPC] (0201 imperial (0603 metric) chip capacitor, least copper)
footprint C_0201_M [CAPC0603M IPC] (0201 imperial (0603 metric) chip capacitor, max copper)
footprint C_0201_N [CAPC0603N IPC] (0201 imperial (0603 metric) chip capacitor, nominal copper)
footprint C_0603_L [CAPC1608L IPC] (0603 imperial (1608 metric) chip capacitor, least copper)
footprint C_0603_M [CAPC1608M IPC] (0603 imperial (1608 metric) chip capacitor, max copper)
footprint C_0603_N [CAPC1608N IPC] (0603 imperial (1608 metric) chip capacitor, nominal copper)
footprint C_0805_L [CAPC2013L IPC] (0805 imperial (2013 metric) chip capacitor, least copper)
footprint C_0805_M [CAPC2013M IPC] (0805 imperial (2013 metric) chip capacitor, max copper)
footprint C_0805_N [CAPC2013N IPC] (0805 imperial (2013 metric) chip capacitor, nominal copper)
footprint C_1206_L [CAPC3216L IPC] (1206 imperial (3216 metric) chip capacitor, least copper)
footprint C_1206_M [CAPC3216M IPC] (1206 imperial (3216 metric) chip capacitor, max copper)
footprint C_1206_N [CAPC3216N IPC] (1206 imperial (3216 metric) chip capacitor, nominal copper)
footprint C_1210_L [CAPC3225L IPC] (1210 imperial (3225 metric) chip capacitor, least copper)
footprint C_1210_M [CAPC3225M IPC] (1210 imperial (3225 metric) chip capacitor, max copper)
footprint C_1210_N [CAPC3225N IPC] (1210 imperial (3225 metric) chip capacitor, nominal copper)
footprint C_0402_L [CAPC1005L IPC] (0402 imperial (1005 metric) chip capacitor, least copper)
footprint C_0402_M [CAPC1005M IPC] (0402 imperial (1005 metric) chip capacitor, max copper)
footprint C_0402_N [CAPC1005N IPC] (0402 imperial (1005 metric) chip capacitor, nominal copper)
footprint C_1808_N [CAPC4520M IPC] (1808 imperial (4520 metric) chip capacitor, max copper)
footprint C_RAD_P750_1050x500_H1100 - duplicate
footprint ECQU2A
pins: 1, 2

## C_GENERIC_19
designator C?, comment 68pF
Prometheus_Manufacturer: AVX Corporation; Prometheus_ID: 06031U680FAT2A; Prometheus_ManPartNo: 68pF; Prometheus_Comment: 68pF
footprint C_0201_L [CAPC0603L IPC] (0201 imperial (0603 metric) chip capacitor, least copper)
footprint C_0201_M [CAPC0603M IPC] (0201 imperial (0603 metric) chip capacitor, max copper)
footprint C_0201_N [CAPC0603N IPC] (0201 imperial (0603 metric) chip capacitor, nominal copper)
footprint C_0603_L [CAPC1608L IPC] (0603 imperial (1608 metric) chip capacitor, least copper)
footprint C_0603_M [CAPC1608M IPC] (0603 imperial (1608 metric) chip capacitor, max copper)
footprint C_0603_N [CAPC1608N IPC] (0603 imperial (1608 metric) chip capacitor, nominal copper)
footprint C_0805_L [CAPC2013L IPC] (0805 imperial (2013 metric) chip capacitor, least copper)
footprint C_0805_M [CAPC2013M IPC] (0805 imperial (2013 metric) chip capacitor, max copper)
footprint C_0805_N [CAPC2013N IPC] (0805 imperial (2013 metric) chip capacitor, nominal copper)
footprint C_1206_L [CAPC3216L IPC] (1206 imperial (3216 metric) chip capacitor, least copper)
footprint C_1206_M [CAPC3216M IPC] (1206 imperial (3216 metric) chip capacitor, max copper)
footprint C_1206_N [CAPC3216N IPC] (1206 imperial (3216 metric) chip capacitor, nominal copper)
footprint C_1210_L [CAPC3225L IPC] (1210 imperial (3225 metric) chip capacitor, least copper)
footprint C_1210_M [CAPC3225M IPC] (1210 imperial (3225 metric) chip capacitor, max copper)
footprint C_1210_N [CAPC3225N IPC] (1210 imperial (3225 metric) chip capacitor, nominal copper)
footprint C_0402_L [CAPC1005L IPC] (0402 imperial (1005 metric) chip capacitor, least copper)
footprint C_0402_M [CAPC1005M IPC] (0402 imperial (1005 metric) chip capacitor, max copper)
footprint C_0402_N [CAPC1005N IPC] (0402 imperial (1005 metric) chip capacitor, nominal copper)
footprint C_1808_N [CAPC4520M IPC] (1808 imperial (4520 metric) chip capacitor, max copper)
footprint C_RAD_P750_1050x500_H1100 - duplicate
footprint ECQU2A
pins: 1, 2

## D_SCHOTTKY_NRVTSA4100E
designator D?, comment NRVTSA4100ET3G
max. Vr = 100 V / max Vf = 680 mV; Prometheus_Manufacturer: ON Semiconductor; Prometheus_ID: *; Prometheus_ManPartNo: NRVTSA4100ET3G; Prometheus_Comment: NRVTSA4100ET3G
footprint DIOM4326X22N IPC (Molded Diode, 2-Leads, Body 4.31x2.61mm, IPC Medium Density)
pins: A, K

## D_TVS_PESD18VF1BL
designator D?, comment PESD18VF1BL
Ultra low capacitance bidirectional ESD protection diode / Cd = 0.35 pF @ 1 MHz / Reverse standoff voltage Vrwm = 18 V @ 25 °C; Prometheus_Manufacturer: Nexperia; Prometheus_ID: *; Prometheus_ManPartNo: PESD18VF1BL; Prometheus_Comment: PESD18VF1BL; DatasheetURL: https://assets.nexperia.com/documents/data-sheet/PESD18VF1BL.pdf
footprint DFN65P98X50-2N IPC (DFN, 2-Leads, Body 0.59x0.99mm, Pitch 0.65mm, IPC Medium Density)
pins: 1, 2

## FB_FBMH4532HM132-T
designator FB?, comment FBMH4532HM132-T
1,3 kOHM @ 100 MHz / 3 A / 60 mOHM; Prometheus_Manufacturer: Taiyo Yuden; Prometheus_ID: *; Prometheus_ManPartNo: FBMH4532HM132-T; Prometheus_Comment: FBMH4532HM132-T
footprint L_1812_N [INDC4532X25N IPC] (Chip Inductor, 2-Leads, Body 4.50x3.20mm, IPC Medium Density)
pins: 1, 2

## FB_GENERIC
designator L?, comment 74279266
1 kOHM @ 100 MHz / 200 mA max.; Prometheus_ID: *; Prometheus_ManPartNo: 74279266; Prometheus_Manufacturer: *; Prometheus_Comment: 74279266
footprint L_0201_L [INDC603L IPC] (Footprint not found)
footprint L_0201_M [INDC0603M IPC] (Footprint not found)
footprint L_0201_N [INDC0603N IPC] (Footprint not found)
footprint L_0402_L [INDC1005L IPC] (Footprint not found)
footprint L_0402_M [INDC1005M IPC] (Footprint not found)
footprint L_0402_N [INDC1005N IPC] (Footprint not found)
footprint L_0603_L [INDC1608L IPC] (Footprint not found)
footprint L_0603_M [INDC1608M IPC] (Footprint not found)
footprint L_0603_N [INDC1608N IPC] (Footprint not found)
footprint L_0805_L [INDC2013L IPC] (Footprint not found)
footprint L_0805_M [INDC2013M IPC] (Footprint not found)
footprint L_0805_N [INDC2013N IPC] (Footprint not found)
pins: 1, 2

## FB_GENERIC_1
designator L?, comment 742792662
Prometheus_Manufacturer: Wuerth Electronics; Prometheus_ID: *; Prometheus_ManPartNo: 742792662; Prometheus_Comment: 742792662
footprint L_0201_L [INDC603L IPC] (Footprint not found)
footprint L_0201_M [INDC0603M IPC] (Footprint not found)
footprint L_0201_N [INDC0603N IPC] (Footprint not found)
footprint L_0402_L [INDC1005L IPC] (Footprint not found)
footprint L_0402_M [INDC1005M IPC] (Footprint not found)
footprint L_0402_N [INDC1005N IPC] (Footprint not found)
footprint L_0603_L [INDC1608L IPC] (Footprint not found)
footprint L_0603_M [INDC1608M IPC] (Footprint not found)
footprint L_0603_N [INDC1608N IPC] (Footprint not found)
footprint L_0805_L [INDC2013L IPC] (Footprint not found)
footprint L_0805_M [INDC2013M IPC] (Footprint not found)
footprint L_0805_N [INDC2013N IPC] (Footprint not found)
pins: 1, 2

## IC_ADS4145IRGZT
designator IC?, comment ADS4145IRGZT
12 Bit, 125 MSPS Ultra-Low-Power ADC / Dynamical Power Scaling with sample rate / Output Interface: / DDR LVDS / Parallel CMOS / 1.8 V Single supply; Prometheus_Manufacturer: Texas Instruments; Prometheus_ManPartNo: ADS4145IRGZT; Prometheus_Comment: ADS4145IRGZT; DatasheetURL: https://www.ti.com/lit/ds/symlink/ads4145.pdf
footprint QFN50P700X700X100_HS-49N (QFN, 48-Leads, Body 7.00x7.00mm, Pitch 0.50mm, Thermal Pad 5.60x5.60mm, IPC Medium Density)
part A pins: 3 OVR_SDOUT (out), 4 CLKOUTM (out), 5 CLKOUTP (out), 6 DFS (in), 7 OE (in), 10 CLKLP (in), 11 CLKM (in), 13 VCM (out), 15 INP (in), 16 INM (in), 21 NC, 23 RESERVED, 27 SEN (in), 28 SDATA (in), 29 SCLK (in), 30 RESET (in), 31 NC, 32 NC, 33 D0_D1_M (out), 34 D0_D1_P (out), 37 D2_D3_M (out), 38 D2_D3_P (out), 39 D4_D5_M (out), 40 D4_D5_P (out), 41 D6_D7_M (out), 42 D6_D7_P (out), 43 D8_D9_M (out), 44 D8_D9_P (out), 45 D10_D11_M (out), 46 D10_D11_P (out), 47 D12_D13_M (out), 48 D12_D13_P (out)
part B pins: 1 DRGND, 2 DRVDD, 8 AVDD, 9 AGND, 12 AGND, 14 AGND, 17 AGND, 18 AVDD, 19 AGND, 20 AVDD, 22 AVDD, 24 AVDD, 25 AGND, 26 AVDD, 35 DRVDD, 36 DRGND, 49 DRGND

## IC_ADUM121N0WBRZ
designator IC?, comment ADUM121N0WBRZ
1/1 digital isolator / 1.8 V to 5 V Level translation; Prometheus_Manufacturer: Analog Devices; Prometheus_ManPartNo: ADUM121N0WBRZ; Prometheus_Comment: ADUM121N0WBRZ; DatasheetURL: https://www.analog.com/media/en/technical-documentation/data-sheets/ADuM120N_121N.pdf
footprint SOIC127P600X175-8N IPC (SOIC, 8-Leads, Body 4.90x3.90mm, Pitch 1.27mm, IPC Medium Density)
pins: 1 VDD1, 2 VOA (out), 3 VIB (in), 4 GND1, 5 GND2, 6 VOB (out), 7 VIA (in), 8 VDD2
text: ISOLATION

## IC_ADUM141E0BRWZ-RL
designator IC?, comment ADUM141E0BRWZ-RL
3/1 digital isolator / 1.8 V to 5 V Level translation; Prometheus_Manufacturer: Analog Devices; Prometheus_ManPartNo: ADUM141E0BRWZ-RL; Prometheus_Comment: ADUM141E0BRWZ-RL; DatasheetURL: https://www.analog.com/media/en/technical-documentation/data-sheets/ADuM140D_140E_141D_141E_142D_142E.pdf
footprint SOIC127P1030X265-16N IPC (SOIC, 16-Leads, Body 10.30x7.50mm, Pitch 1.27mm, IPC Medium Density)
pins: 1 VDD1, 2 GND1, 3 VIA (in), 4 VIB (in), 5 VIC (in), 6 VOD (out), 7 VE1 (in), 8 GND1, 9 GND2, 10 VE2 (in), 11 VID (in), 12 VOC (out), 13 VOB (out), 14 VOA (out), 15 GND2, 16 VDD2
text: ISOLATION

## IC_ADUM152N0BRZ
designator IC?, comment ADUM152N0BRZ
3/2 digital isolator / 1.8 V to 5 V Level translation; Prometheus_Manufacturer: Analog Devices; Prometheus_ManPartNo: ADUM152N0BRZ; Prometheus_Comment: ADUM152N0BRZ; DatasheetURL: https://www.analog.com/media/en/technical-documentation/data-sheets/ADuM150N-151N-152N.pdf
footprint SOIC127P600X175-16N IPC (SOIC, 16-Leads, Body 9.90x3.90mm, Pitch 1.27mm, IPC Medium Density)
pins: 1 VDD1, 2 VIA (in), 3 VIB (in), 4 VIC (in), 5 VOD (out), 6 VOE (out), 7 NIC, 8 GND1, 9 GND2, 10 NIC, 11 VIE (in), 12 VID (in), 13 VOC (out), 14 VOB (out), 15 VOA (out), 16 VDD2
text: ISOLATION

## IC_BGA427
designator IC?, comment BGA427H6327XTSA1
Si-MMIC-Amplifier in SIEGET® 25-Technologie / Cascadeable 50 OHM gain block / NF = 2.2 dB @ 1.8 GHz / IP3out = + 7 dBm @ 1.8 GHz (Vd = 3V, Id = 9.4 mA) / Vc = 2 V to  5V; Prometheus_Manufacturer: Infineon Technologies; Prometheus_ManPartNo: BGA427H6327XTSA1; Prometheus_Comment: BGA427H6327XTSA1
footprint SOT130P210X100-4N IPC (SOT343, 4-Leads, Body 2.00x2.10mm, Pitch 1.30mm, IPC Medium Density)
pins: 1 IN (in), 2 GND, 3 +Vcc, 4 OUT (out)

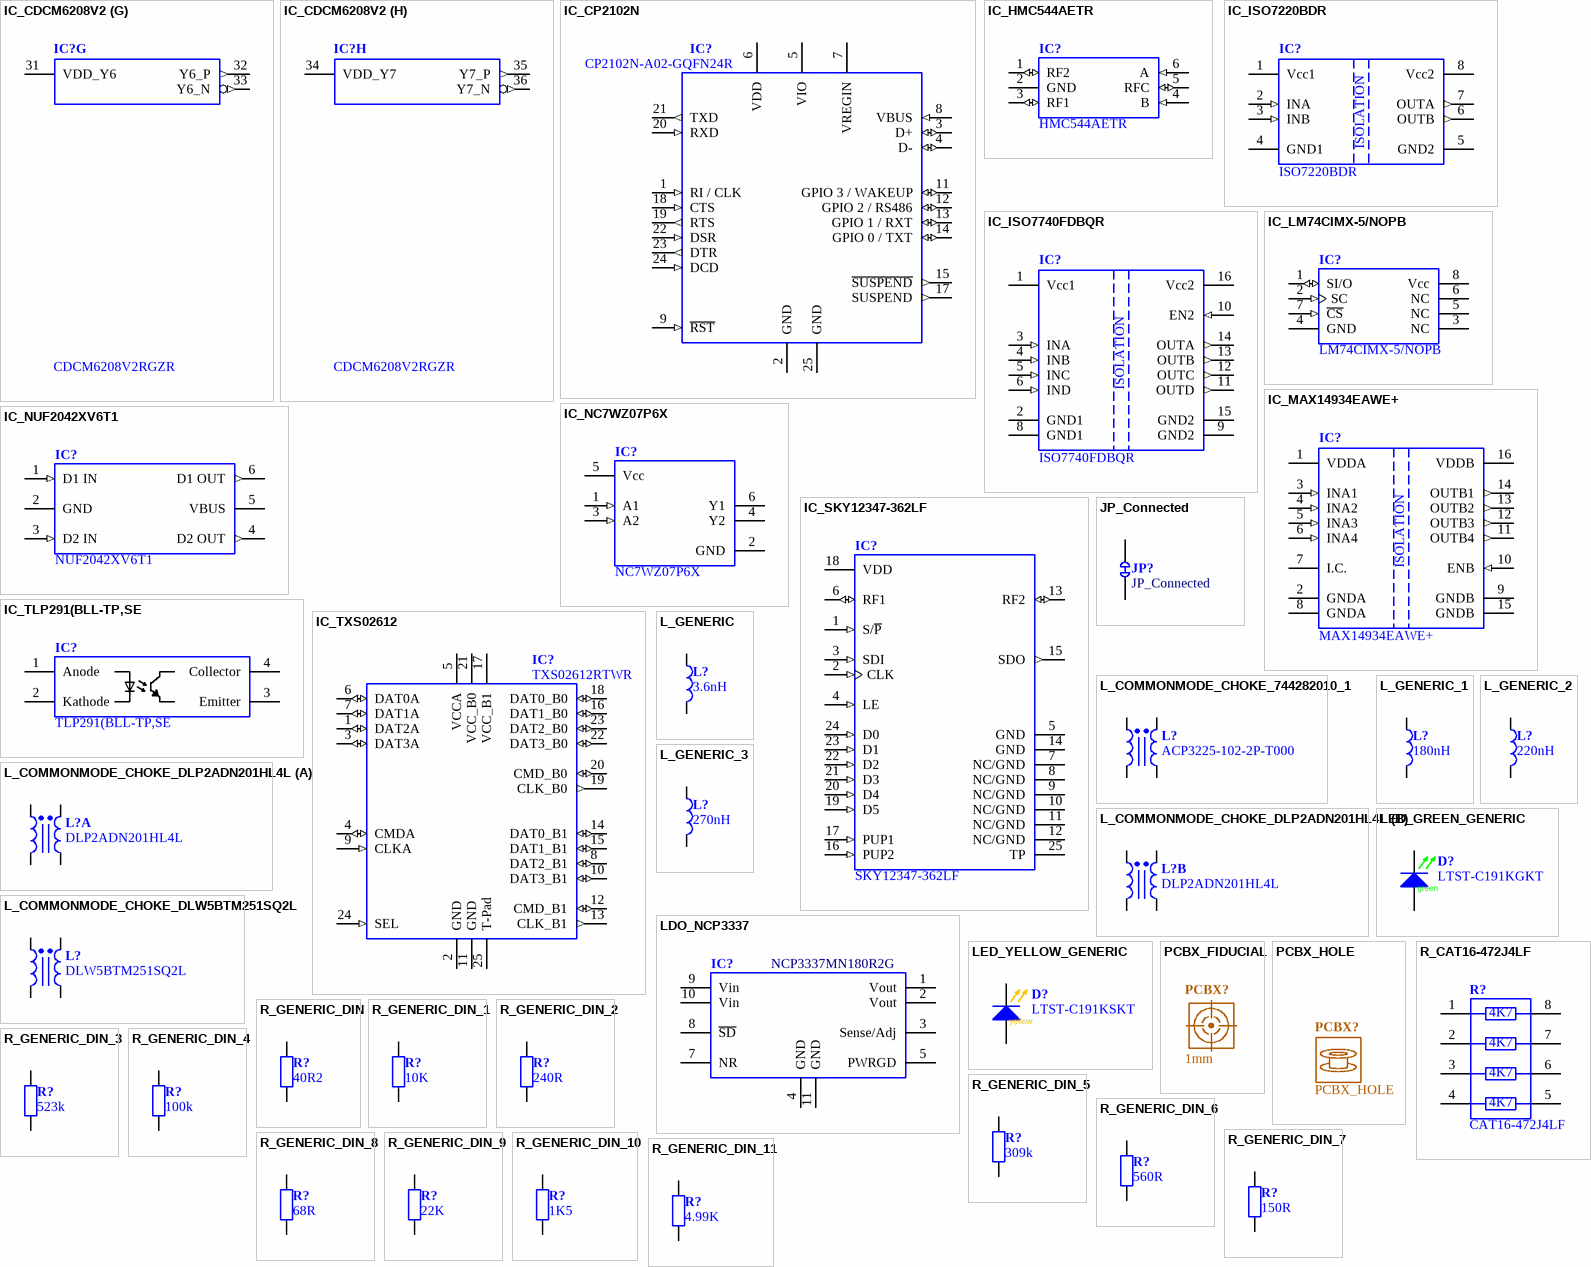
[diagram p1: symbols IC_CDCM6208V2 to R_GENERIC_DIN_11]

## IC_CDCM6208V2
designator IC?, comment CDCM6208V2RGZR
2:8 Clock Generator, Jitter Cleaner with fractional dividers; Prometheus_Manufacturer: Texas Instruments; Prometheus_ManPartNo: CDCM6208V2RGZR; Prometheus_Comment: CDCM6208V2RGZR; DatasheetURL: https://www.ti.com/general/docs/suppproductinfo.tsp?distId=10&gotoUrl=http%3A%2F%2Fwww.ti.com%2Flit%2Fgpn%2Fcdcm6208
footprint QFN50P700X700X100_HS-49N IPC (QFN, 48-Leads, Body 7.00x7.00mm, Pitch 0.50mm, Thermal Pad 4.10x4.10mm, IPC Medium Density)
part A pins: 1 SI_MODE0 (in), 2 SDI/SDA/PIN1 (io), 3 SDO/AD0/PIN2 (io), 4 SCS/AD1/PIN3 (in), 5 SCL/PIN4 (in), 37 VDD_PLL1, 38 VDD_PLL2, 39 VDD_VCO, 40 REG_CAP (out), 41 ELF (out), 42 ~{SYNC} (in), 43 ~{PD} (in), 44 ~{RESET}/PWR (in), 45 STATUS1/PIN0 (io), 46 STATUS0 (out), 47 SI_MODE1 (in), 48 DVDD, 49 GND/PAD
part B pins: 6 REF_SEL (in), 7 VDD_PRI_REF, 8 PRI_REFP (in), 9 PRI_REFN (in), 10 VDD_SEC_REF, 11 SEC_REFP (in), 12 SEC_REFN (in)
part C pins: 13 VDD_Y0_Y1, 14 Y0_P (out), 15 Y0_N (out), 16 Y1_N (out), 17 Y1_P (out), 18 VDD_Y0_Y1
part D pins: 19 VDD_Y2_Y3, 20 Y2_P (out), 21 Y2_N (out), 22 Y3_N (out), 23 Y3_P (out), 24 VDD_Y2_Y3
part E pins: 25 Y4_N (out), 26 Y4_P (out), 27 VDD_Y4
part F pins: 28 Y5_N (out), 29 Y5_P (out), 30 VDD_Y5
part G pins: 31 VDD_Y6, 32 Y6_P (out), 33 Y6_N (out)
part H pins: 34 VDD_Y7, 35 Y7_P (out), 36 Y7_N (out)

## IC_CP2102N
designator IC?, comment CP2102N-A02-GQFN24R
USB to UART Data Transfer / USB 2.0 compliant; full speed (12Mbps) / Single power supply of 3.0 to 3.6 V or 3.0 to 5.25 V / Virtual COM Port Device Drivers; Prometheus_Manufacturer: Silabs; Prometheus_ManPartNo: CP2102N-A02-GQFN24R; Prometheus_Comment: CP2102N-A02-GQFN24R
footprint QFN50P400X400X80_HS-25N IPC (QFN, 24-Leads, Body 4.00x4.00mm, Pitch 0.50mm, Thermal Pad 2.45x2.45mm, IPC Medium Density)
pins: 1 RI / CLK (in), 2 GND, 3 D+ (io), 4 D- (io), 5 VIO, 6 VDD, 7 VREGIN, 8 VBUS (in), 9 ~{RST} (in), 11 GPIO 3 / WAKEUP (io), 12 GPIO 2 / RS486 (io), 13 GPIO 1 / RXT (io), 14 GPIO 0 / TXT (io), 15 ~{SUSPEND} (out), 17 SUSPEND (out), 18 CTS (in), 19 RTS (out), 20 RXD (in), 21 TXD (out), 22 DSR (in), 23 DTR (out), 24 DCD (in), 25 GND

## IC_HMC544AETR
designator IC?, comment HMC544AETR
GaAS MMIC T/R Switch / DC ... 4 GHz / Insetion Loss: 0.2 dB @ 1 GHz / P1dB: +39 dBm / IP3: +60 dBm / Control: 3 V / 5 V; Prometheus_Manufacturer: Analog Devices; Prometheus_ManPartNo: HMC544AETR; Prometheus_Comment: HMC544AETR; DatasheetURL: https://www.analog.com/media/en/technical-documentation/data-sheets/hmc544ae.pdf
footprint TSOP95P280X145-6N IPC (TSOP, 6-Leads, Body 2.90x1.60mm, Pitch 0.95mm, IPC Medium Density)
pins: 1 RF2 (io), 2 GND, 3 RF1 (io), 4 B (in), 5 RFC (io), 6 A (in)